# EAGLE library part AD5314 (library Radicon)
AD5304/AD5314/AD5324 2.5 V to 5.5 V, 500 uA, Quad Voltage Output 8-/10-/12-Bit DACs in 10-Lead microSOIC
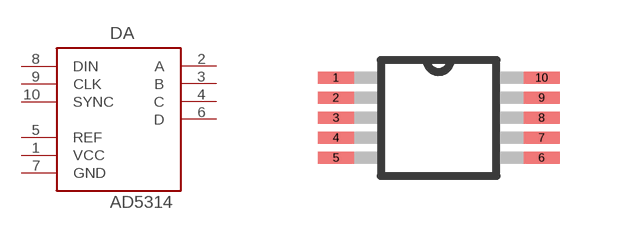
[diagram p45: symbol with the pads of AD5314; footprint AD5314]

Designator prefix DA

## AD5314BRM  [AD5314]
1  VCC  pas
2  A  pas
3  B  pas
4  C  pas
5  REF  pas
6  D  pas
7  GND  pas
8  DIN  pas
9  CLK  pas
10  SYNC  pas

## Footprint AD5314 (pad centres in mm)
AD5314 Auto generated by make-symbol-device-package-bsdl.ulp Rev. 34
smd 0.9 x 0.3: 1 -2.575,1; 2 -2.575,0.5; 3 -2.575,0; 4 -2.575,-0.5; 5 -2.575,-1; 6 2.575,-1; 7 2.575,-0.5; 8 2.575,0; 9 2.575,0.5; 10 2.575,1